# EAGLE library part GPIO_DEBUG (library SobieskiSat2)
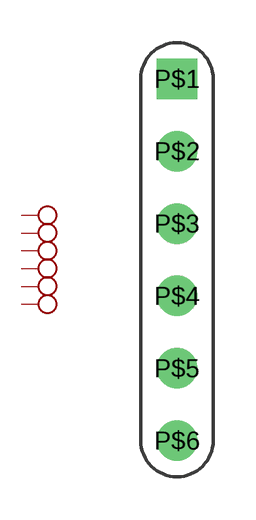
[diagram p22: symbol with the pads of GPIO_DEBUG; footprint GPIO_DEBUG]

Designator prefix -

## GPIO_DEBUG  [GPIO_DEBUG]
P$1  P$1
P$2  P$2
P$3  P$3
P$4  P$4
P$5  P$5
P$6  P$6

## Footprint GPIO_DEBUG (pad centres in mm)
drill 0.889 pad 1.422 square: P$1 0,6.35
drill 0.889 pad 1.422: P$2 0,3.81; P$3 0,1.27; P$4 0,-1.27; P$5 0,-3.81; P$6 0,-6.35